# Altium schematic symbol library Connectors-barrier-terminal.SchLib: 25 symbols
Pins are listed as number, name and electrical type; pins without a type are passive.

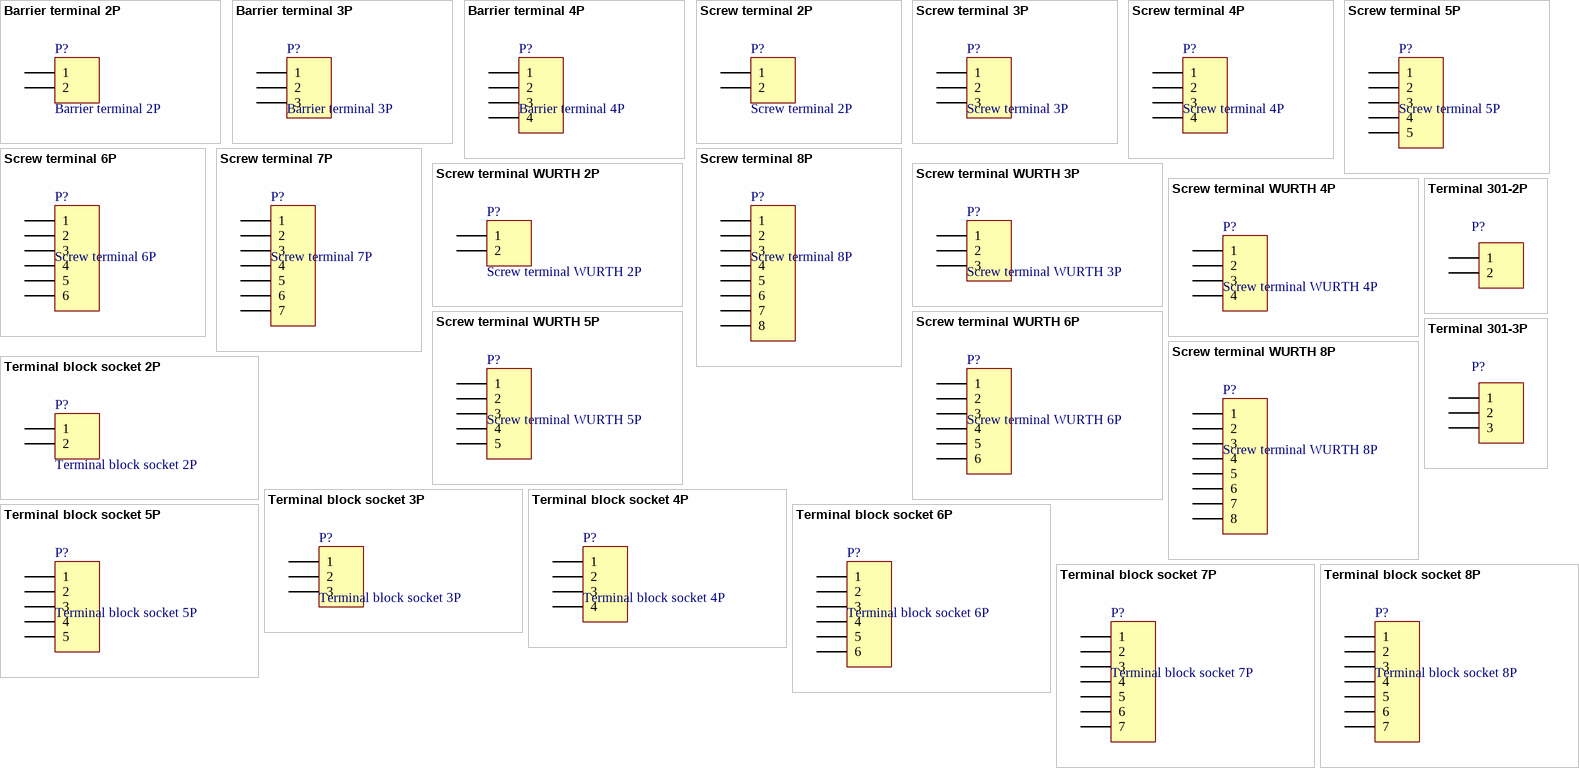
[diagram p0: symbols Barrier terminal 2P to Terminal block socket 8P]

## Barrier terminal 2P
designator P?
Single row pins
signal-integrity model Connector
footprint TE 4DB-P108-02 (Assembly, Dual Barrier 4DB P108)
footprint TE NC6-P108-02
pins: 1, 2

## Barrier terminal 3P
designator P?
Single row pins
signal-integrity model Connector
footprint TE 4DB-P108-03 (Assembly, Dual Barrier 4DB P108)
footprint TE NC6-P108-03
pins: 1, 2, 3

## Barrier terminal 4P
designator P?
Single row pins
signal-integrity model Connector
footprint TE NC6-P108-04
footprint TE 4DB-P108-04 (Assembly, Dual Barrier 4DB P108)
pins: 1, 2, 3, 4

## Screw terminal 2P
designator P?
Single row pins
signal-integrity model Connector
footprint TE 282834-2
pins: 1, 2

## Screw terminal 3P
designator P?
Single row pins
signal-integrity model Connector
footprint TE 282834-3
pins: 1, 2, 3

## Screw terminal 4P
designator P?
Single row pins
signal-integrity model Connector
footprint TE 282834-4
pins: 1, 2, 3, 4

## Screw terminal 5P
designator P?
Single row pins
signal-integrity model Connector
footprint TE 282834-5
pins: 1, 2, 3, 4, 5

## Screw terminal 6P
designator P?
Single row pins
signal-integrity model Connector
footprint TE 282834-6
pins: 1, 2, 3, 4, 5, 6

## Screw terminal 7P
designator P?
Single row pins
signal-integrity model Connector
footprint TE 282834-7
pins: 1, 2, 3, 4, 5, 6, 7

## Screw terminal 8P
designator P?
Single row pins
signal-integrity model Connector
footprint TE 282834-8
pins: 1, 2, 3, 4, 5, 6, 7, 8

## Screw terminal WURTH 2P
designator P?
Single row pins
signal-integrity model Connector
footprint WURTH 691508110302
pins: 1, 2

## Screw terminal WURTH 3P
designator P?
Single row pins
signal-integrity model Connector
footprint WURTH 691508110303
pins: 1, 2, 3

## Screw terminal WURTH 4P
designator P?
Single row pins
signal-integrity model Connector
footprint WURTH 691508110304
pins: 1, 2, 3, 4

## Screw terminal WURTH 5P
designator P?
Single row pins
signal-integrity model Connector
footprint WURTH 691508110305
pins: 1, 2, 3, 4, 5

## Screw terminal WURTH 6P
designator P?
Single row pins
signal-integrity model Connector
footprint WURTH 691508110306
pins: 1, 2, 3, 4, 5, 6

## Screw terminal WURTH 8P
designator P?
Single row pins
signal-integrity model Connector
footprint WURTH 691508110308
pins: 1, 2, 3, 4, 5, 6, 7, 8

## Terminal 301-2P
designator P?  (value not drawn)
Screw terminal 5.08mm pitch
footprint Terminal 301-2P (Screw terminal 5.08mm pitch)
pins: 1, 2

## Terminal 301-3P
designator P?  (value not drawn)
Screw terminal 5.08mm pitch
footprint Terminal 301-3P (Screw terminal 5.08mm pitch)
pins: 1, 2, 3

## Terminal block socket 2P
designator P?
FCI Pluggable Terminal Block
signal-integrity model Connector
footprint FCI 06-381-2PIN (FCI Pluggable Terminal Block)
footprint Terminal block 2R socket
pins: 1, 2

## Terminal block socket 3P
designator P?
FCI Pluggable Terminal Block
signal-integrity model Connector
footprint FCI 06-381-3PIN (FCI Pluggable Terminal Block)
footprint Terminal block 3R socket
pins: 1, 2, 3

## Terminal block socket 4P
designator P?
FCI Pluggable Terminal Block
signal-integrity model Connector
footprint FCI 06-381-4PIN (FCI Pluggable Terminal Block)
footprint Terminal block 4R socket
pins: 1, 2, 3, 4

## Terminal block socket 5P
designator P?
FCI Pluggable Terminal Block
signal-integrity model Connector
footprint FCI 06-381-5PIN (FCI Pluggable Terminal Block)
footprint Terminal block 5R socket
pins: 1, 2, 3, 4, 5

## Terminal block socket 6P
designator P?
FCI Pluggable Terminal Block
signal-integrity model Connector
footprint FCI 06-381-6PIN (FCI Pluggable Terminal Block)
footprint Terminal block 6R socket
pins: 1, 2, 3, 4, 5, 6

## Terminal block socket 7P
designator P?
FCI Pluggable Terminal Block
signal-integrity model Connector
footprint FCI 06-381-7PIN (FCI Pluggable Terminal Block)
footprint Terminal block 7R socket
pins: 1, 2, 3, 4, 5, 6, 7

## Terminal block socket 8P
designator P?
FCI Pluggable Terminal Block
signal-integrity model Connector
footprint FCI 06-381-8PIN (FCI Pluggable Terminal Block)
pins: 1, 2, 3, 4, 5, 6, 7